# EAGLE library part FAN4010IL6X_F113 (library EPS_PQ60)
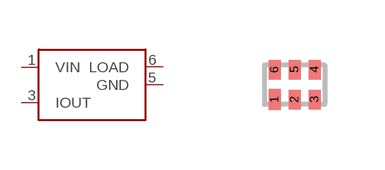
[diagram p8: symbol with the pads of FAN4010IL6X_F113; footprint FAN4010IL6X_F113]

Designator prefix -

## FAN4010IL6X_F113  [FAN4010IL6X_F113]
1  VIN
2  NC
3  IOUT
4  NC
5  GND
6  LOAD

## Footprint FAN4010IL6X_F113 (pad centres in mm)
smd 0.3 x 0.52: 1 -0.5,-0.375
smd 0.3 x 0.49: 2 0,-0.375; 3 0.5,-0.375; 4 0.5,0.375; 5 0,0.375; 6 -0.5,0.375